# EAGLE library part K157UD2_ISO (library _mtvl_ic.soviet)
K157UD2 Soviet Opamp
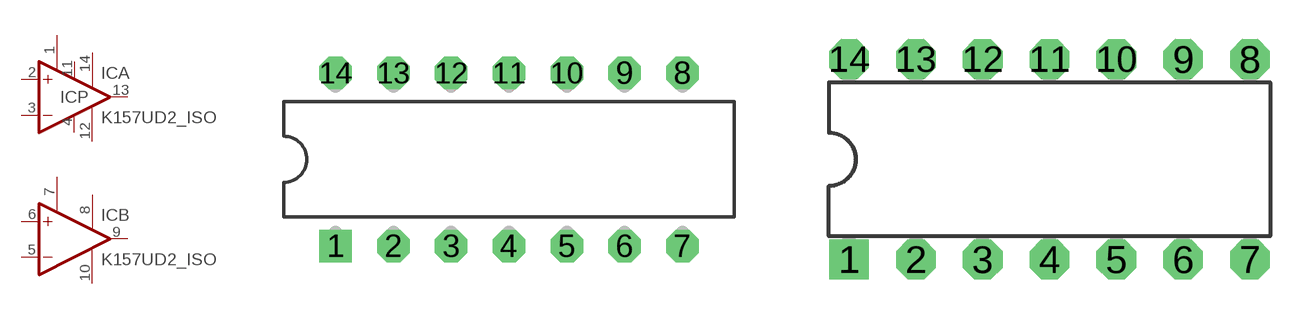
[diagram p0: symbol with the pads of 201.14-1; footprints 201.14-1, DIL-14_IMPLANT]

Designator prefix IC; gates P=PWR+- A=157UD2 B=157UD2

## K157UD2_ISO  [201.14-1]
1  A:CORR1  pas
2  A:+IN  in
3  A:-IN  in
4  P:V-  pwr
5  B:-IN  in
6  B:+IN  in
7  B:CORR1  pas
8  B:CORR2  pas
9  B:OUT  out
10  B:NC  nc
11  P:V+  pwr
12  A:NC  nc
13  A:OUT  out
14  A:CORR2  pas

## K157UD2_ISOIMPLANT  [DIL-14_IMPLANT]
Pads as for 201.14-1

## Footprint 201.14-1 (pad centres in mm)
Dual In Line Package
drill 0.9 square: 1 -7.5,-3.75
drill 0.9 octagon: 2 -5,-3.75; 3 -2.5,-3.75; 4 0,-3.75; 5 2.5,-3.75; 6 5,-3.75; 7 7.5,-3.75; 8 7.5,3.75; 9 5,3.75; 10 2.5,3.75; 11 0,3.75; 12 -2.5,3.75; 13 -5,3.75; 14 -7.5,3.75

## Footprint DIL-14_IMPLANT (pad centres in mm)
drill 1 square: 1 -7.62,-3.81
drill 1 octagon: 2 -5.08,-3.81; 3 -2.54,-3.81; 4 0,-3.81; 5 2.54,-3.81; 6 5.08,-3.81; 7 7.62,-3.81; 8 7.62,3.81; 9 5.08,3.81; 10 2.54,3.81; 11 0,3.81; 12 -2.54,3.81; 13 -5.08,3.81; 14 -7.62,3.81